# Altium footprint library CONN_TBLOCK_3P5_A.PcbLib: 36 footprints (part 3 of 3)
Each footprint in its own frame and in the unit in brackets; x right, y up, seen from the top. Pads: shape width x height; smd on the part's side, far side on the other; paste and mask are expansions set on the pad; w line width, h text height; cw(c..) or ccw(c..) is an arc to the next point about the centre after c.
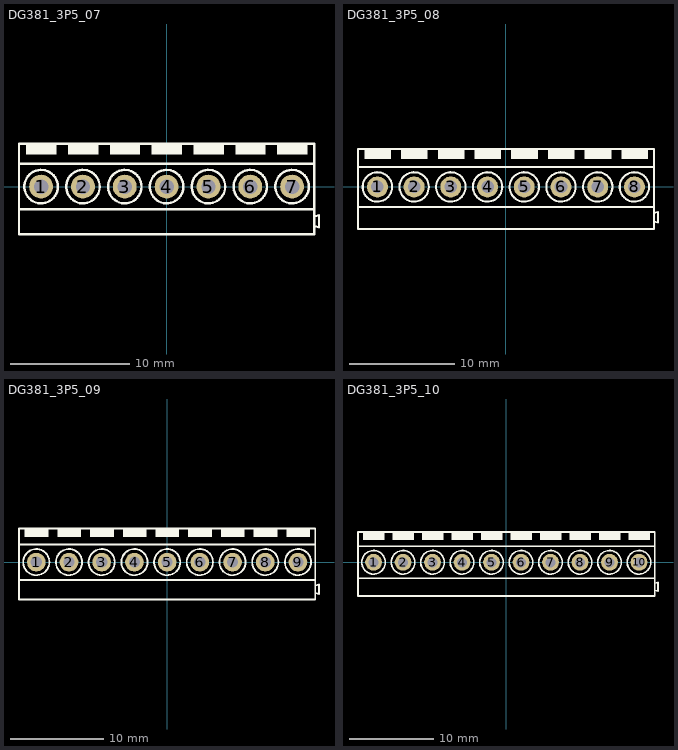
[diagram p2: the footprints below, top view; thin cyan lines are the x and y axes]

## DG381_3P5_07 [mm] "Terminal Block Screw, Pitch 3.5mm, H 8.6mm"
height 8.6
pads (7):
  round 2 / inner round 2 / far side rect 2.4x3 hole 1.2: 1(-10.5,0)
  round 2 / inner round 2 / far side oval 2.4x3 hole 1.2: 2(-7,0) 3(-3.5,0) 4(0,0) 5(3.5,0) 6(7,0) 7(10.5,0)
Top Overlay:
  circle w0.2: c7,0 r1.4
  circle w0.2: c10.5,0 r1.4
  circle w0.2: c0,0 r1.4
  circle w0.2: c3.5,0 r1.4
  circle w0.2: c-7,0 r1.4
  circle w0.2: c-3.5,0 r1.4
  circle w0.2: c-10.5,0 r1.4
  rectangle: 5.754,2.667 8.294,3.556
  rectangle: 9.254,2.667 11.794,3.556
  rectangle: -1.246,2.667 1.294,3.556
  rectangle: 2.254,2.667 4.794,3.556
  rectangle: -8.246,2.667 -5.706,3.556
  rectangle: -4.746,2.667 -2.206,3.556
  rectangle: -11.746,2.667 -9.206,3.556
  lines w0.2: -12.35,-1.9 12.35,-1.9 ; -12.35,1.9 12.35,1.9 ; 12.35,-3.3 12.75,-3.4 12.75,-2.4 12.35,-2.5 ; -12.35,-4 -12.35,3.6 12.35,3.6 12.35,-4 -12.35,-4
3D body "DG381-3.5-07P-14.stp": height 8.6, standoff -3.6, extent -12.25,-3.9 12.65,3.5

## DG381_3P5_08 [mm] "Terminal Block Screw, Pitch 3.5mm, H 8.6mm"
height 8.6
pads (8):
  round 2 / inner round 2 / far side rect 2.4x3 hole 1.2: 1(-12.25,0)
  round 2 / inner round 2 / far side oval 2.4x3 hole 1.2: 2(-8.75,0) 3(-5.25,0) 4(-1.75,0) 5(1.75,0) 6(5.25,0) 7(8.75,0) 8(12.25,0)
Top Overlay:
  circle w0.2: c-8.75,0 r1.4
  circle w0.2: c-12.25,0 r1.4
  circle w0.2: c-1.75,0 r1.4
  circle w0.2: c-5.25,0 r1.4
  circle w0.2: c5.25,0 r1.4
  circle w0.2: c1.75,0 r1.4
  circle w0.2: c12.25,0 r1.4
  circle w0.2: c8.75,0 r1.4
  rectangle: -9.996,2.667 -7.456,3.556
  rectangle: -13.496,2.667 -10.956,3.556
  rectangle: -2.996,2.667 -0.456,3.556
  rectangle: -6.496,2.667 -3.956,3.556
  rectangle: 4.004,2.667 6.544,3.556
  rectangle: 0.504,2.667 3.044,3.556
  rectangle: 11.004,2.667 13.544,3.556
  rectangle: 7.504,2.667 10.044,3.556
  lines w0.2: -14.1,-1.9 14.1,-1.9 ; -14.1,1.9 14.1,1.9 ; 14.1,-3.3 14.5,-3.4 14.5,-2.4 14.1,-2.5 ; -14.1,-4 14.1,-4 14.1,3.6 -14.1,3.6 -14.1,-4
3D body "DG381-3.5-08P-14.stp": height 8.6, standoff -3.6, extent -14,-3.9 14.4,3.5

## DG381_3P5_09 [mm] "Terminal Block Screw, Pitch 3.5mm, H 8.6mm"
height 8.6
pads (9):
  round 2 / inner round 2 / far side rect 2.4x3 hole 1.2: 1(-14,0)
  round 2 / inner round 2 / far side oval 2.4x3 hole 1.2: 2(-10.5,0) 3(-7,0) 4(-3.5,0) 5(0,0) 6(3.5,0) 7(7,0) 8(10.5,0) 9(14,0)
Top Overlay:
  circle w0.2: c-14,0 r1.4
  circle w0.2: c-7,0 r1.4
  circle w0.2: c-10.5,0 r1.4
  circle w0.2: c0,0 r1.4
  circle w0.2: c-3.5,0 r1.4
  circle w0.2: c7,0 r1.4
  circle w0.2: c3.5,0 r1.4
  circle w0.2: c14,0 r1.4
  circle w0.2: c10.5,0 r1.4
  rectangle: -15.246,2.667 -12.706,3.556
  rectangle: -8.246,2.667 -5.706,3.556
  rectangle: -11.746,2.667 -9.206,3.556
  rectangle: -1.246,2.667 1.294,3.556
  rectangle: -4.746,2.667 -2.206,3.556
  rectangle: 5.754,2.667 8.294,3.556
  rectangle: 2.254,2.667 4.794,3.556
  rectangle: 12.754,2.667 15.294,3.556
  rectangle: 9.254,2.667 11.794,3.556
  lines w0.2: -15.85,-1.9 15.85,-1.9 ; -15.85,1.9 15.85,1.9 ; 15.85,-3.3 16.25,-3.4 16.25,-2.4 15.85,-2.5 ; -15.85,-4 15.85,-4 15.85,3.6 -15.85,3.6 -15.85,-4
3D body "DG381-3.5-09P-14.stp": height 8.6, standoff -3.6, extent -15.75,-3.9 16.15,3.5

## DG381_3P5_10 [mm] "Terminal Block Screw, Pitch 3.5mm, H 8.6mm"
height 8.6
pads (10):
  round 2 / inner round 2 / far side rect 2.4x3 hole 1.2: 1(-15.75,0)
  round 2 / inner round 2 / far side oval 2.4x3 hole 1.2: 2(-12.25,0) 3(-8.75,0) 4(-5.25,0) 5(-1.75,0) 6(1.75,0) 7(5.25,0) 8(8.75,0) 9(12.25,0) 10(15.75,0)
Top Overlay:
  circle w0.2: c12.25,0 r1.4
  circle w0.2: c15.75,0 r1.4
  circle w0.2: c5.25,0 r1.4
  circle w0.2: c8.75,0 r1.4
  circle w0.2: c-1.75,0 r1.4
  circle w0.2: c1.75,0 r1.4
  circle w0.2: c-8.75,0 r1.4
  circle w0.2: c-5.25,0 r1.4
  circle w0.2: c-15.75,0 r1.4
  circle w0.2: c-12.25,0 r1.4
  rectangle: 11.004,2.667 13.544,3.556
  rectangle: 14.504,2.667 17.044,3.556
  rectangle: 4.004,2.667 6.544,3.556
  rectangle: 7.504,2.667 10.044,3.556
  rectangle: -2.996,2.667 -0.456,3.556
  rectangle: 0.504,2.667 3.044,3.556
  rectangle: -9.996,2.667 -7.456,3.556
  rectangle: -6.496,2.667 -3.956,3.556
  rectangle: -16.996,2.667 -14.456,3.556
  rectangle: -13.496,2.667 -10.956,3.556
  lines w0.2: -17.6,-1.9 17.6,-1.9 ; -17.6,1.9 17.6,1.9 ; 17.6,-3.3 18,-3.4 18,-2.4 17.6,-2.5 ; -17.6,-4 -17.6,3.6 17.6,3.6 17.6,-4 -17.6,-4
3D body "DG381-3.5-10P-14.stp": height 8.6, standoff -3.6, extent -17.5,-3.9 17.9,3.5